# EAGLE library part NTX2 (library Mine)
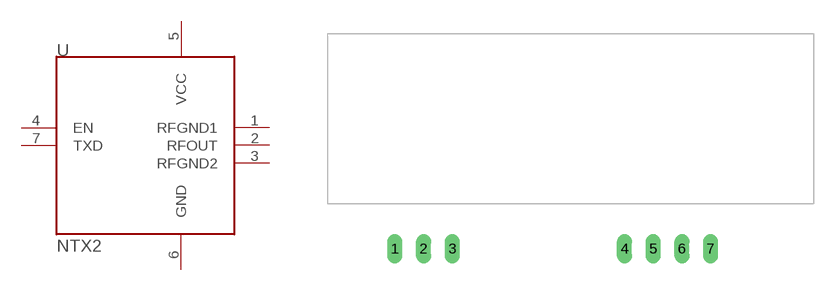
[diagram p33: symbol with the pads of NTX2H; footprint NTX2H]

Designator prefix -

## NTX2H  [NTX2H]
1  RFGND1  pas
2  RFOUT  out
3  RFGND2  pas
4  EN  in
5  VCC  pas
6  GND  pas
7  TXD  in

## Footprint NTX2H (pad centres in mm)
drill 0.8 long: 1 -19.05,0; 2 -16.51,0; 3 -13.97,0; 4 1.27,0; 5 3.81,0; 6 6.35,0; 7 8.89,0